# EAGLE library part PINHD-2X10/SMD (library vikc-pinhead)
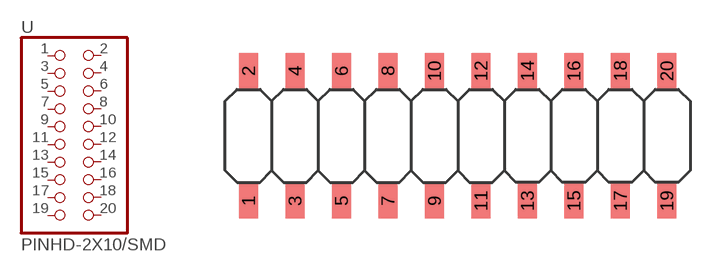
[diagram p46: symbol with the pads of 2X10/SMD; footprint 2X10/SMD]

Designator prefix -

## PINHD-2X10/SMD  [2X10/SMD]
1  1  pas
2  2  pas
3  3  pas
4  4  pas
5  5  pas
6  6  pas
7  7  pas
8  8  pas
9  9  pas
10  10  pas
11  11  pas
12  12  pas
13  13  pas
14  14  pas
15  15  pas
16  16  pas
17  17  pas
18  18  pas
19  19  pas
20  20  pas

## Footprint 2X10/SMD (pad centres in mm)
smd 1.016 x 1.905: 1 -6.35,-3.556; 2 -6.35,3.556; 3 -3.81,-3.556; 4 -3.81,3.556; 5 -1.27,-3.556; 6 -1.27,3.556; 7 1.27,-3.556; 8 1.27,3.556; 9 3.81,-3.556; 10 3.81,3.556; 11 6.35,-3.556; 12 6.35,3.556; 13 8.89,-3.556; 14 8.89,3.556; 15 11.43,-3.556; 16 11.43,3.556; 17 13.97,-3.556; 18 13.97,3.556; 19 16.51,-3.556; 20 16.51,3.556